# EAGLE library part MPU9250 (library MPU9250)
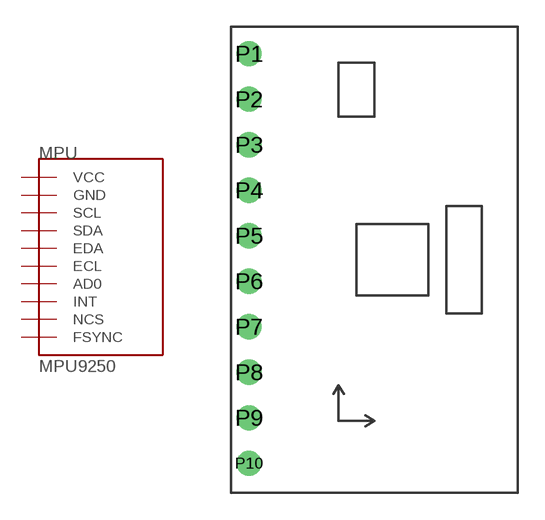
[diagram p0: symbol with the pads of GY-9250; footprint GY-9250]

Designator prefix MPU

## MPU9250  [GY-9250]
P1  VCC
P2  GND
P3  SCL
P4  SDA
P5  EDA
P6  ECL
P7  AD0
P8  INT
P9  NCS
P10  FSYNC

## Footprint GY-9250 (pad centres in mm)
drill 0.9: P1 -7,11.5; P2 -7,8.96; P3 -7,6.42; P4 -7,3.88; P5 -7,1.34; P6 -7,-1.2; P7 -7,-3.74; P8 -7,-6.28; P9 -7,-8.82; P10 -7,-11.36